# Altium schematic symbol library Analog to Digital Converters (ADC).SchLib: 3 symbols
Pins are listed as number, name and electrical type; pins without a type are passive.

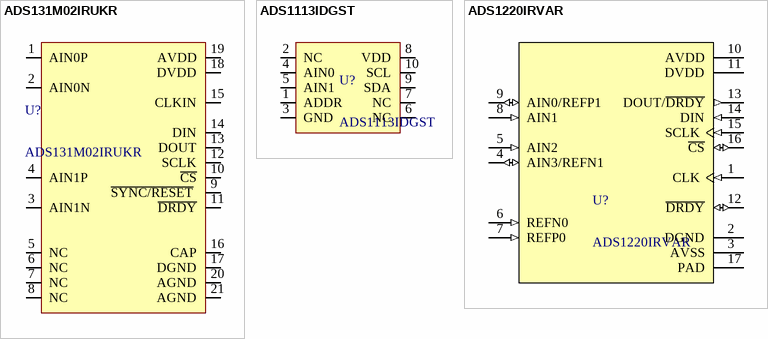
[diagram p0: symbols ADS131M02IRUKR to ADS1220IRVAR]

## ADS131M02IRUKR
designator U?
24 Bit Analog to Digital Converter 2 Input 2 Sigma-Delta 20-WQFN (3x3); Precision: N/A; Package / Case: 20-WQFN; Mounted: Yes; Supplier 1: Digi-Key; Supplier Part Number 1: 296-ADS131M02IRUKRTR-ND; Supplier 2: Digi-Key; Supplier 3: Digi-Key; Supplier 4: Digi-Key
footprint WQFN-20 (20-WQFN (3x3))
pins: 1 AIN0P, 2 AIN0N, 3 AIN1N, 4 AIN1P, 5 NC, 6 NC, 7 NC, 8 NC, 9 ~{SYNC/RESET} , 10 ~{CS}, 11 ~{DRDY}, 12 SCLK, 13 DOUT, 14 DIN, 15 CLKIN, 16 CAP, 17 DGND, 18 DVDD, 19 AVDD, 20 AGND, 21 AGND

## ADS1113IDGST
designator U?
IC ADC 16BIT SIGMA-DELTA 10VSSOP; Precision: N/A; Package / Case: 10-VSSOP; Mounted: Yes; Supplier 1: Digi-Key; Supplier Part Number 1: 296-24930-1-ND; Supplier 2: Digi-Key; Supplier 3: Digi-Key; Supplier 4: Digi-Key
footprint VSSOP-10 (TI VSSOP-10 DGS0010A 05/2015)
pins: 1 ADDR, 2 NC, 3 GND, 4 AIN0, 5 AIN1, 6 NC, 7 NC, 8 VDD, 9 SDA, 10 SCL

## ADS1220IRVAR
designator U?
IC ADC 24BIT SIGMA-DELTA 16-VFQFN Exposed Pad / 2k sampling rate / second; Precision: N/A; Package / Case: 16-VQFN; Mounted: Yes; Supplier 1: Digi-Key; Supplier Part Number 1: 296-48475-2-ND; Supplier 2: Digi-Key; Supplier 3: Digi-Key; Supplier 4: Digi-Key
footprint VFQFN-16 Pad
pins: 1 CLK (in), 2 DGND (power), 3 AVSS (power), 4 AIN3/REFN1 (io), 5 AIN2 (in), 6 REFN0 (in), 7 REFP0 (in), 8 AIN1 (in), 9 AIN0/REFP1 (io), 10 AVDD (power), 11 DVDD (power), 12 ~{DRDY} (io), 13 DOUT/~{DRDY} (out), 14 DIN (in), 15 SCLK (in), 16 ~{CS} (io), 17 PAD